# Altium footprint library Module.PcbLib: 4 footprints
Each footprint in its own frame and in the unit in brackets; x right, y up, seen from the top. Pads: shape width x height; smd on the part's side, far side on the other; paste and mask are expansions set on the pad; w line width, h text height; cw(c..) or ccw(c..) is an arc to the next point about the centre after c.
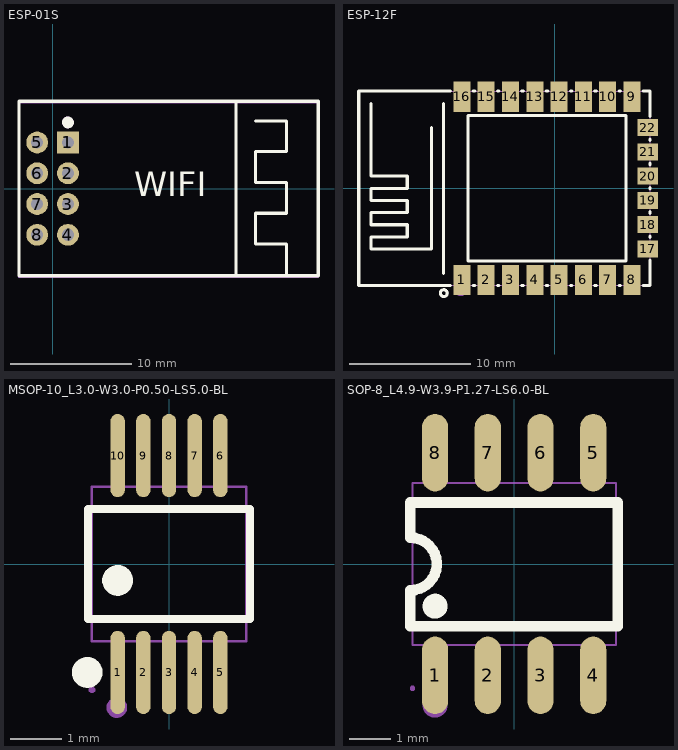
[diagram p0: the footprints below, top view; thin cyan lines are the x and y axes]

## ESP-01S [mm]
pads (8):
  rect 1.8x1.8 hole 1 paste-2539.97 mask+0.05: 1(1.27,3.81)
  round 1.8 hole 1 paste-2539.97 mask+0.05: 2(1.27,1.27) 3(1.27,-1.27) 4(1.27,-3.81) 5(-1.27,3.81) 6(-1.27,1.27) 7(-1.27,-1.27) 8(-1.27,-3.81)
Top Overlay:
  circle w0.5: c1.27,5.461 r0.232
  lines w0.254: 15.144,-6.985 15.144,7.239 ; 16.764,5.588 19.304,5.588 19.304,3.048 16.764,3.048 16.764,0.508 19.304,0.508 19.304,-2.032 16.764,-2.032 16.764,-4.572 19.304,-4.572 19.304,-7.112 ; -2.77,-7.19 -2.77,7.21 21.93,7.21 21.93,-7.19 -2.77,-7.19
  text "WIFI" at 6.731,-0.635 h2.03
Mechanical 2:
  circle w0.5: c1.27,5.461 r0.232
Mechanical 6:
  lines w0.051: -2.77,-7.3 -2.77,7.1 21.93,7.1 21.93,-7.3 -2.77,-7.3
Mechanical 8:
  region: 21.99,7.1 21.99,7.075 21.955,7.04 21.905,7.04 21.87,7.075 21.87,7.1 21.87,7.125 21.905,7.16 21.955,7.16 21.99,7.125
Mechanical 9:
  region: -0.95,-3.49 -0.95,-4.13 -1.59,-4.13 -1.59,-3.49
  region: -0.95,-0.95 -0.95,-1.59 -1.59,-1.59 -1.59,-0.95
  region: -0.95,1.59 -0.95,0.95 -1.59,0.95 -1.59,1.59
  region: -0.95,4.13 -0.95,3.49 -1.59,3.49 -1.59,4.13
  region: 1.59,-3.49 1.59,-4.13 0.95,-4.13 0.95,-3.49
  region: 1.59,-0.95 1.59,-1.59 0.95,-1.59 0.95,-0.95
  region: 1.59,1.59 1.59,0.95 0.95,0.95 0.95,1.59
  region: 1.59,4.13 1.59,3.49 0.95,3.49 0.95,4.13
3D body "ESP-01S.step": height 4.96, standoff -2.84, extent -2.698,-7.2 22.002,7.2

## ESP-12F [mm]
pads (22):
  rect 1.4x2.5 smd paste+0.051: 1(-7.651,-7.551) 2(-5.651,-7.551) 3(-3.651,-7.551) 4(-1.651,-7.551) 5(0.349,-7.551) 6(2.349,-7.551) 7(4.349,-7.551) 8(6.349,-7.551) 9(6.349,7.549) 10(4.349,7.55) 11(2.349,7.551) 12(0.349,7.551) 13(-1.651,7.55) 14(-3.651,7.551) 15(-5.651,7.55) 16(-7.651,7.551)
  rect 1.7x1.4 smd paste+0.051: 17(7.651,-5) 18(7.649,-3.002) 19(7.65,-1.003) 20(7.65,0.997) 21(7.65,2.997) 22(7.65,4.997)
Top Overlay:
  circle w0.254: c-9.144,-8.636 r0.284
  lines w0.254: -15.151,6.998 -15.151,0.998 -12.151,0.998 -12.151,-0.002 -15.151,-0.002 -15.151,-1.002 -12.151,-1.002 -12.151,-2.002 -15.151,-2.002 -15.151,-3.002 -12.151,-3.002 -12.151,-4.002 -15.151,-4.002 -15.151,-5.002 -10.151,-5.002 -10.151,4.998 ; -9.151,-7.002 -9.151,6.998 ; -8.582,-8.001 -16.151,-8.001 -16.151,7.998 -8.582,7.998 ; -6.719,-8.001 -6.582,-8.001 ; -6.719,7.998 -6.582,7.998 ; -4.719,-8.001 -4.582,-8.001 ; -4.719,7.998 -4.582,7.998 ; -2.719,-8.001 -2.582,-8.001 ; -2.719,7.998 -2.582,7.998 ; -0.719,-8.001 -0.582,-8.001 ; -0.719,7.998 -0.582,7.998 ; 1.281,-8.001 1.418,-8.001 ; 1.281,7.998 1.418,7.998 ; 3.281,-8.001 3.418,-8.001 ; 3.281,7.998 3.418,7.998 ; 5.281,-8.001 5.418,-8.001 ; 5.281,7.998 5.418,7.998 ; 7.281,-8.001 7.847,-8.001 7.847,-5.931 ; 7.281,7.998 7.847,7.998 7.847,5.928 ; 7.847,-4.069 7.847,-3.933 ; 7.847,-2.071 7.847,-1.934 ; 7.847,-0.072 7.847,0.066 ; 7.847,1.929 7.847,2.066 ; 7.847,3.928 7.847,4.066 ; -7.151,-6.002 -7.151,5.998 5.849,5.998 5.849,-6.002 -7.151,-6.002
Mechanical 2:
  circle w0.5: c-7.747,-8.382 r0.25
Mechanical 6:
  lines w0.051: -16.151,-8.003 -16.151,7.997 7.849,7.997 7.849,-8.003 -16.151,-8.003
Mechanical 8:
  region: -16.091,-8.003 -16.091,-8.028 -16.126,-8.063 -16.176,-8.063 -16.211,-8.028 -16.211,-8.003 -16.211,-7.978 -16.176,-7.943 -16.126,-7.943 -16.091,-7.978
Mechanical 9:
  region: 7.849,5.497 7.849,4.497 6.949,4.497 6.949,5.497
  region: 7.849,3.497 7.849,2.497 6.949,2.497 6.949,3.497
  region: 7.849,1.498 7.849,0.498 6.949,0.498 6.949,1.498
  region: 7.849,-0.503 7.849,-1.503 6.949,-1.503 6.949,-0.503
  region: 7.849,-2.502 7.849,-3.502 6.949,-3.502 6.949,-2.502
  region: 7.849,-4.5 7.849,-5.5 6.949,-5.5 6.949,-4.5
  region: -8.151,6.35 -8.151,8 -7.151,8 -7.151,6.35
  region: -6.151,6.35 -6.151,8 -5.151,8 -5.151,6.35
  region: -4.151,6.35 -4.151,8 -3.151,8 -3.151,6.35
  region: -2.151,6.35 -2.151,8 -1.151,8 -1.151,6.35
  region: -0.151,6.35 -0.151,8 0.849,8 0.849,6.35
  region: 1.849,6.35 1.849,8 2.849,8 2.849,6.35
  region: 3.849,6.35 3.849,8 4.849,8 4.849,6.35
  region: 5.849,6.35 5.849,8 6.849,8 6.849,6.35
  region: 6.849,-6.35 6.849,-8 5.849,-8 5.849,-6.35
  region: 4.849,-6.35 4.849,-8 3.849,-8 3.849,-6.35
  region: 2.849,-6.35 2.849,-8 1.849,-8 1.849,-6.35
  region: 0.849,-6.35 0.849,-8 -0.151,-8 -0.151,-6.35
  region: -1.151,-6.35 -1.151,-8 -2.151,-8 -2.151,-6.35
  region: -3.151,-6.35 -3.151,-8 -4.151,-8 -4.151,-6.35
  region: -5.151,-6.35 -5.151,-8 -6.151,-8 -6.151,-6.35
  region: -7.151,-6.35 -7.151,-8 -8.151,-8 -8.151,-6.35
3D body "ESP-12F.step": height 3.14, standoff 0.03, extent -16.079,-7.961 7.931,8.059

## MSOP-10_L3.0-W3.0-P0.50-LS5.0-BL [mm]
pads (10):
  oval 0.28x1.62 smd paste+0.051: 1(-1,-2.11) 2(-0.5,-2.11) 3(0,-2.11) 4(0.5,-2.11) 5(1,-2.11) 6(1,2.11) 7(0.5,2.11) 8(0,2.11) 9(-0.5,2.11) 10(-1,2.11)
Top Overlay:
  circle w0.3: c-1.592,-2.11 r0.15
  circle w0.3: c-1,-0.319 r0.15
  lines w0.152: -1.576,-1.071 1.576,-1.071 1.576,1.071 -1.576,1.071 -1.576,-1.071
Mechanical 2:
  circle w0.2: c-1.016,-2.794 r0.1
Mechanical 6:
  lines w0.051: -1.5,-1.5 1.5,-1.5 1.5,1.5 -1.5,1.5 -1.5,-1.5
Mechanical 7:
  region: 0.888,1.91 0.888,1.49 1.112,1.49 1.112,1.91
  region: 0.388,1.91 0.388,1.49 0.612,1.49 0.612,1.91
  region: -0.112,1.91 -0.112,1.49 0.112,1.49 0.112,1.91
  region: -0.612,1.91 -0.612,1.49 -0.388,1.49 -0.388,1.91
  region: -1.112,1.91 -1.112,1.49 -0.888,1.49 -0.888,1.91
  region: 0.888,-1.91 0.888,-1.49 1.112,-1.49 1.112,-1.91
  region: 0.388,-1.91 0.388,-1.49 0.612,-1.49 0.612,-1.91
  region: -0.112,-1.91 -0.112,-1.49 0.112,-1.49 0.112,-1.91
  region: -0.612,-1.91 -0.612,-1.49 -0.388,-1.49 -0.388,-1.91
  region: -1.112,-1.91 -1.112,-1.49 -0.888,-1.49 -0.888,-1.91
Mechanical 8:
  region: -1.44,-2.45 -1.44,-2.475 -1.475,-2.51 -1.525,-2.51 -1.56,-2.475 -1.56,-2.45 -1.56,-2.425 -1.525,-2.39 -1.475,-2.39 -1.44,-2.425 -1.44,-2.45
Mechanical 9:
  region: 0.888,2.45 0.888,1.9 1.112,1.9 1.112,2.45
  region: 0.388,2.45 0.388,1.9 0.612,1.9 0.612,2.45
  region: -0.112,2.45 -0.112,1.9 0.112,1.9 0.112,2.45
  region: -0.612,2.45 -0.612,1.9 -0.388,1.9 -0.388,2.45
  region: -1.112,2.45 -1.112,1.9 -0.888,1.9 -0.888,2.45
  region: 0.888,-2.45 0.888,-1.9 1.112,-1.9 1.112,-2.45
  region: 0.388,-2.45 0.388,-1.9 0.612,-1.9 0.612,-2.45
  region: -0.112,-2.45 -0.112,-1.9 0.112,-1.9 0.112,-2.45
  region: -0.612,-2.45 -0.612,-1.9 -0.388,-1.9 -0.388,-2.45
  region: -1.112,-2.45 -1.112,-1.9 -0.888,-1.9 -0.888,-2.45
3D body "MSOP-10.step": height 1.1, standoff 0, extent -1.5,-2.5 1.5,2.5

## SOP-8_L4.9-W3.9-P1.27-LS6.0-BL [mm]
pads (8):
  oval 0.63x1.865 smd paste+0.051: 1(-1.905,-2.682) 2(-0.635,-2.682) 3(0.635,-2.682) 4(1.905,-2.682) 5(1.905,2.682) 6(0.635,2.682) 7(-0.635,2.682) 8(-1.905,2.682)
Top Overlay:
  circle w0.3: c-1.905,-1.016 r0.15
  lines w0.254: -2.5,-1.498 2.5,-1.498 2.5,1.482 -2.5,1.482 -2.499,0.635 cw(c-2.5,0) -2.5,-0.635 -2.5,-1.498
Mechanical 2:
  circle w0.3: c-1.905,-3.4 r0.15
Mechanical 6:
  lines w0.051: -2.45,-1.95 2.45,-1.95 2.45,1.95 -2.45,1.95 -2.45,-1.95
Mechanical 7:
  region: 2.115,-2.232 1.695,-2.232 1.695,-1.942 2.115,-1.942
  region: 0.845,-2.232 0.425,-2.232 0.425,-1.942 0.845,-1.942
  region: -0.425,-2.232 -0.845,-2.232 -0.845,-1.942 -0.425,-1.942
  region: -1.695,-2.232 -2.115,-2.232 -2.115,-1.942 -1.695,-1.942
  region: -2.115,2.232 -1.695,2.232 -1.695,1.942 -2.115,1.942
  region: -0.845,2.232 -0.425,2.232 -0.425,1.942 -0.845,1.942
  region: 0.425,2.232 0.845,2.232 0.845,1.942 0.425,1.942
  region: 1.695,2.232 2.115,2.232 2.115,1.942 1.695,1.942
Mechanical 8:
  region: -2.39,-3 -2.39,-3.025 -2.425,-3.06 -2.475,-3.06 -2.51,-3.025 -2.51,-3 -2.51,-2.975 -2.475,-2.94 -2.425,-2.94 -2.39,-2.975 -2.39,-3
Mechanical 9:
  region: -2.115,-3 -2.115,-2.165 -1.695,-2.165 -1.695,-3
  region: -0.845,-3 -0.845,-2.165 -0.425,-2.165 -0.425,-3
  region: 0.425,-3 0.425,-2.165 0.845,-2.165 0.845,-3
  region: 1.695,-3 1.695,-2.165 2.115,-2.165 2.115,-3
  region: -2.115,2.165 -2.115,3 -1.695,3 -1.695,2.165
  region: -0.845,2.165 -0.845,3 -0.425,3 -0.425,2.165
  region: 0.425,2.165 0.425,3 0.845,3 0.845,2.165
  region: 1.695,2.165 1.695,3 2.115,3 2.115,2.165
3D body "SOP-8.step": height 1.51, standoff 0.01, extent -2.45,-3 2.45,3